# Altium schematic symbol library MSS1210-473MED.SchLib: 1 symbol
Pins are listed as number, name and electrical type; pins without a type are passive.

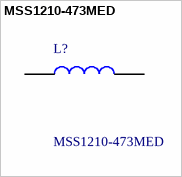
[diagram p0: symbol MSS1210-473MED]

## MSS1210-473MED
designator L?
INDUCTOR, 47UH, 4.6A, 20%, PWR, 6MHZ; Manufacturer_Name: COILCRAFT; Geometry.Height: 10.2mm; Mouser Part Number: 994-MSS1210-473MED; Mouser Price/Stock: https://www.mouser.co.uk/ProductDetail/Coilcraft/MSS1210-473MED?qs=zCSbvcPd3paxXLuSYyP%252Bhg%3D%3D; Manufacturer_Part_Number: MSS1210-473MED; Datasheet Link: https://www.coilcraft.com/getmedia/f1a1bc5f-bdff-42f8-9ca8-1a0fb1d5094f/MSS1210.pdf
footprint INDPM120120X1020N
pins: 1, 2